# Altium footprint library MLACHA_B.PCBLIB: 37 footprints (part 1 of 3)
Each footprint in its own frame and in the unit in brackets; x right, y up, seen from the top. Pads: shape width x height; smd on the part's side, far side on the other; paste and mask are expansions set on the pad; w line width, h text height; cw(c..) or ccw(c..) is an arc to the next point about the centre after c.
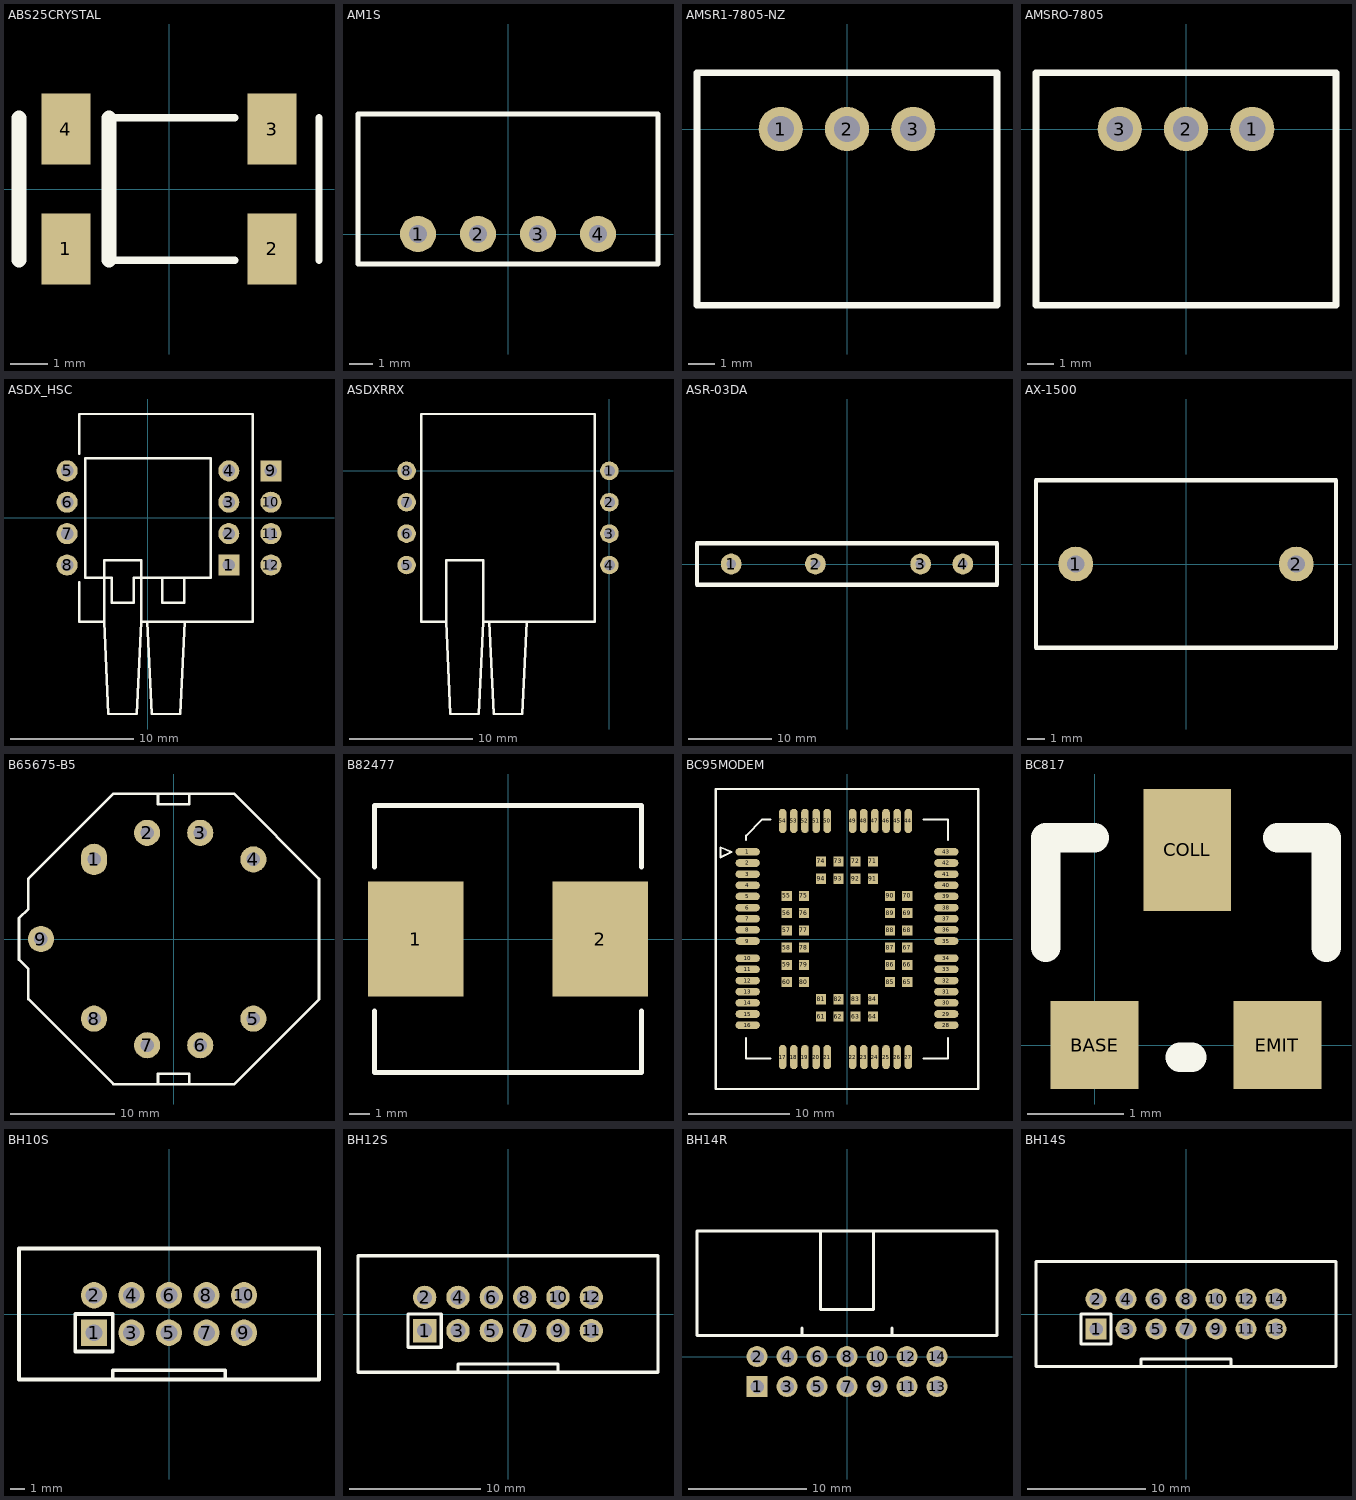
[diagram p0: the footprints below, top view; thin cyan lines are the x and y axes]

## ABS25CRYSTAL [mm]
pads (4):
  rect 1.3x1.9 smd paste+0 mask+0.04: 1(-2.75,-1.6) 2(2.75,-1.6) 3(2.75,1.6) 4(-2.75,1.6)
TopOverlay:
  lines w0.2: -1.6,-1.9 1.75,-1.9 ; -1.6,1.9 1.75,1.9 ; 4,-1.9 4,1.9
  lines w0.4: -4,-1.9 -4,1.9 ; -1.6,-1.9 -1.6,1.9
3D body: height 2.5, standoff 0, extent -4,-1.9 4,1.9
3D body: height 1, standoff 0, extent -3.25,-2 -2.25,-1.9
3D body: height 1, standoff 0, extent 2.25,-2 3.25,-1.9
3D body: height 1, standoff 0, extent -3.25,1.9 -2.25,2
3D body: height 1, standoff 0, extent 2.25,1.9 3.25,2

## AM1S [mil]
pads (4):
  round 60 hole 30: 1(-150,0) 2(-50,0) 3(50,0) 4(150,0)
TopOverlay:
  lines w8: -250,-50 -250,200 250,200 250,-50 -250,-50
3D body: height 413.39, standoff 0, extent -250,-50 250,200

## AMSR1-7805-NZ [mm]
pads (3):
  round 1.7 hole 1: 1(-2.54,0) 2(0,0) 3(2.54,0)
TopOverlay:
  lines w0.25: -5.75,-6.75 -5.75,2.15 5.75,2.15 5.75,-6.75 -5.75,-6.75
3D body: height 0.8, standoff 0, extent -5.75,-6.75 -5.3,2.15
3D body: height 0.8, standoff 0, extent 5.3,-6.75 5.75,2.15
3D body: height 17.5, standoff 0.5, extent -5.75,-6.75 5.75,2.15

## AMSRO-7805 [mm]
pads (3):
  round 1.7 hole 1: 1(2.54,0) 2(0,0) 3(-2.54,0)
TopOverlay:
  lines w0.25: -5.75,-6.75 -5.75,2.15 5.75,2.15 5.75,-6.75 -5.75,-6.75
3D body: height 0.8, standoff 0, extent -5.75,-6.75 -5.3,2.15
3D body: height 0.8, standoff 0, extent 5.3,-6.75 5.75,2.15
3D body: height 17.5, standoff 0.5, extent -5.75,-6.75 5.75,2.15

## ASDX_HSC [mm]
pads (12):
  rect 1.7x1.7 hole 1: 1(6.54,-3.81) 9(9.944,3.81)
  round 1.7 hole 1: 2(6.54,-1.27) 3(6.54,1.27) 4(6.54,3.81) 5(-6.54,3.81) 6(-6.54,1.27) 7(-6.54,-1.27) 8(-6.54,-3.81) 10(9.944,1.27) 11(9.944,-1.27) 12(9.944,-3.81)
TopOverlay:
  lines w0.2: -5.551,-5.2 -5.551,-8.407 -3.541,-8.407 ; -5.551,5.2 -5.551,8.407 8.47,8.407 8.47,-8.407 -0.541,-8.407 ; -0.041,-8.41 0.309,-15.86 2.609,-15.86 2.959,-8.41 ; 1.143,-4.826 1.143,-6.858 2.921,-6.858 2.921,-4.826 ; -5.08,-4.826 -5.08,4.826 5.08,4.826 5.08,-4.826 -1.143,-4.826 -1.143,-6.858 -2.921,-6.858 -2.921,-4.826 -5.08,-4.826 ; -3.541,-8.41 -3.201,-15.86 -0.901,-15.86 -0.541,-8.41 -0.541,-3.41 -3.541,-3.41 -3.541,-8.41
3D body: height 3.2, standoff 3, extent -6.94,-4.41 -5.141,-3.21
3D body: height 3.2, standoff 3, extent -6.94,-1.87 -5.141,-0.67
3D body: height 3.2, standoff 3, extent -6.94,0.67 -5.141,1.87
3D body: height 3.2, standoff 3, extent -6.94,3.21 -5.141,4.41
3D body: height 6.16, standoff 0, extent -5.08,-4.826 5.08,4.826
3D body: height 3.2, standoff 0, extent 6.31,3.21 6.71,4.41
3D body: height 3.2, standoff 3, extent 4.91,3.21 6.71,4.41
3D body: height 3.2, standoff 3, extent 4.91,0.67 6.71,1.87
3D body: height 3.2, standoff 0, extent 6.31,0.67 6.71,1.87
3D body: height 3.2, standoff 3, extent 4.91,-1.87 6.71,-0.67
3D body: height 3.2, standoff 0, extent 6.31,-1.87 6.71,-0.67
3D body: height 3.2, standoff 3, extent 4.91,-4.41 6.71,-3.21
3D body: height 3.2, standoff 0, extent 6.31,-4.41 6.71,-3.21
3D body: height 5.93, standoff 4.01, extent -2.961,-7.3 -1.039,-4.8
3D body: height 2.15, standoff 0.23, extent 1.039,-7.3 2.961,-4.8
3D body: height 4.7, standoff 4.5, extent -6.94,3.21 -5.141,4.41
3D body: height 9.14, standoff 0.2, extent -5.551,-8.407 8.47,8.331
3D body: height 11.18, standoff 8.18, extent -3.535,-8.4 -0.546,-3.4
3D body: height 10.83, standoff 8.53, extent -3.201,-15.86 -0.91,-8.36
3D body: height 2.95, standoff 0.65, extent 0.309,-15.86 2.6,-8.36
3D body: height 4.7, standoff 4.5, extent 8.314,3.21 10.114,4.41
3D body: height 4.7, standoff 0, extent 9.714,3.21 10.114,4.41
3D body: height 0, standoff -1.7, extent 9.714,3.51 10.114,4.11
3D body: height 0, standoff -1.7, extent 9.714,0.97 10.114,1.57
3D body: height 4.7, standoff 0, extent 9.714,0.67 10.114,1.87
3D body: height 4.7, standoff 4.5, extent 8.314,0.67 10.114,1.87
3D body: height 0, standoff -1.7, extent 9.714,-1.57 10.114,-0.97
3D body: height 4.7, standoff 0, extent 9.714,-1.87 10.114,-0.67
3D body: height 4.7, standoff 4.5, extent 8.314,-1.87 10.114,-0.67
3D body: height 0, standoff -1.7, extent 9.714,-4.11 10.114,-3.51
3D body: height 4.7, standoff 0, extent 9.714,-4.41 10.114,-3.21
3D body: height 4.7, standoff 4.5, extent 8.314,-4.41 10.114,-3.21
3D body: height 0, standoff -1.7, extent -6.94,-4.11 -6.54,-3.51
3D body: height 4.7, standoff 0, extent -6.94,-4.41 -6.54,-3.21
3D body: height 4.7, standoff 4.5, extent -6.94,-4.41 -5.141,-3.21
3D body: height 0, standoff -1.7, extent -6.94,-1.57 -6.54,-0.97
3D body: height 4.7, standoff 0, extent -6.94,-1.87 -6.54,-0.67
3D body: height 4.7, standoff 4.5, extent -6.94,-1.87 -5.141,-0.67
3D body: height 0, standoff -1.7, extent -6.94,0.97 -6.54,1.57
3D body: height 4.7, standoff 0, extent -6.94,0.67 -6.54,1.87
3D body: height 4.7, standoff 4.5, extent -6.94,0.67 -5.141,1.87
3D body: height 0, standoff -1.7, extent -6.94,3.51 -6.54,4.11
3D body: height 4.7, standoff 0, extent -6.94,3.21 -6.54,4.41

## ASDXRRX [mm]
pads (8):
  round 1.5 hole 0.9: 1(0,0) 2(0,-2.54) 3(0,-5.08) 4(0,-7.62) 5(-16.4,-7.62) 6(-16.4,-5.08) 7(-16.4,-2.54) 8(-16.4,0)
TopOverlay:
  lines w0.2: -13.2,-12.217 -15.21,-12.217 -15.21,4.597 -1.19,4.597 -1.19,-12.217 -10.2,-12.217 ; -9.7,-12.22 -9.35,-19.67 -7.05,-19.67 -6.7,-12.22 ; -13.2,-12.22 -13.2,-7.22 -10.2,-7.22 -10.2,-12.22 -10.56,-19.67 -12.86,-19.67 -13.2,-12.22
3D body: height 4.7, standoff 4.5, extent -16.6,-0.6 -14.8,0.6
3D body: height 4.7, standoff 0, extent -16.6,-0.6 -16.2,0.6
3D body: height 0, standoff -1.7, extent -16.6,-0.3 -16.2,0.3
3D body: height 4.7, standoff 4.5, extent -16.6,-3.14 -14.8,-1.94
3D body: height 4.7, standoff 0, extent -16.6,-3.14 -16.2,-1.94
3D body: height 0, standoff -1.7, extent -16.6,-2.84 -16.2,-2.24
3D body: height 4.7, standoff 4.5, extent -16.6,-5.68 -14.8,-4.48
3D body: height 4.7, standoff 0, extent -16.6,-5.68 -16.2,-4.48
3D body: height 0, standoff -1.7, extent -16.6,-5.38 -16.2,-4.78
3D body: height 4.7, standoff 4.5, extent -16.6,-8.22 -14.8,-7.02
3D body: height 4.7, standoff 0, extent -16.6,-8.22 -16.2,-7.02
3D body: height 0, standoff -1.7, extent -16.6,-7.92 -16.2,-7.32
3D body: height 4.7, standoff 4.5, extent -1.6,-8.22 0.2,-7.02
3D body: height 4.7, standoff 0, extent -0.2,-8.22 0.2,-7.02
3D body: height 0, standoff -1.7, extent -0.2,-7.92 0.2,-7.32
3D body: height 4.7, standoff 4.5, extent -1.6,-5.68 0.2,-4.48
3D body: height 4.7, standoff 0, extent -0.2,-5.68 0.2,-4.48
3D body: height 0, standoff -1.7, extent -0.2,-5.38 0.2,-4.78
3D body: height 4.7, standoff 4.5, extent -1.6,-3.14 0.2,-1.94
3D body: height 4.7, standoff 0, extent -0.2,-3.14 0.2,-1.94
3D body: height 0, standoff -1.7, extent -0.2,-2.84 0.2,-2.24
3D body: height 0, standoff -1.7, extent -0.2,-0.3 0.2,0.3
3D body: height 4.7, standoff 0, extent -0.2,-0.6 0.2,0.6
3D body: height 4.7, standoff 4.5, extent -1.6,-0.6 0.2,0.6
3D body: height 2.95, standoff 0.65, extent -9.35,-19.67 -7.059,-12.17
3D body: height 10.83, standoff 8.53, extent -12.86,-19.67 -10.569,-12.17
3D body: height 11.18, standoff 8.18, extent -13.194,-12.21 -10.206,-7.21
3D body: height 9.14, standoff 0.2, extent -15.21,-12.217 -1.19,4.521

## ASR-03DA [mm]
pads (4):
  round 2.5 hole 1.2: 1(-13.97,0) 2(-3.81,0) 3(8.89,0) 4(13.97,0)
TopOverlay:
  lines w0.5: -18.1,-2.5 -18.1,2.5 18.1,2.5 18.1,-2.5 -18.1,-2.5
3D body: height 22.5, standoff 0.8, extent -18.05,-2.5 18.15,2.5
3D body: height 3, standoff -2, extent -14.3,-0.45 -13.6,0.45
3D body: height 3, standoff -2, extent -4.14,-0.45 -3.44,0.45
3D body: height 3, standoff -2, extent 8.56,-0.45 9.26,0.45
3D body: height 3, standoff -2, extent 13.64,-0.45 14.34,0.45

## AX-1500 [mm]
pads (2):
  round 2 hole 1: 1(-6.35,0) 2(6.35,0)
TopOverlay:
  lines w0.25: -8.636,-4.826 8.636,-4.826 8.636,4.826 -8.636,4.826 -8.636,-4.826
3D body: height 20.4, standoff 0, extent -8.636,-4.826 8.636,4.826

## B65675-B5 [mm]
pads (9):
  oval 2.5x3 hole 1.3: 1(-7.62,7.62)
  round 2.5 hole 1.3: 2(-2.54,10.16) 3(2.54,10.16) 4(7.62,7.62) 5(7.62,-7.62) 6(2.54,-10.16) 7(-2.54,-10.16) 8(-7.62,-7.62) 9(-12.7,0)
TopOverlay:
  lines w0.25: -13.9,-5.761 -13.9,-2.876 -14.8,-1.976 -14.8,1.994 -13.9,2.894 -13.9,5.779 ; -13.898,-5.759 -5.779,-13.879 ; -13.879,5.779 -5.758,13.9 5.744,13.9 ; -5.758,-13.9 5.753,-13.9 ; -1.5,-13.9 -1.5,-12.9 1.5,-12.9 1.5,-13.9 ; -1.5,13.9 -1.5,12.9 1.5,12.9 1.5,13.9 ; 5.751,13.907 13.893,5.765 ; 5.755,-13.902 13.879,-5.779 ; 13.9,-5.779 13.9,5.772
3D body: height 18.2, standoff 18, extent -13.4,-2.7 13.4,2.7
3D body: height 18.2, standoff 0, extent 13,-2.7 13.4,2.7
3D body: height 18.2, standoff 0, extent -13.4,-2.7 -12.9,2.7
3D body: height 18, standoff 0, extent -12.897,-13.074 13,12.874
3D body: height 3, standoff 0, extent -13.9,-13.902 13.893,13.907

## B82477 [mm]
pads (2):
  rect 4.65x5.6 smd: 1(-4.5,0) 2(4.5,0)
TopOverlay:
  lines w0.254: -6.5,-3.5 -6.5,-6.5 6.5,-6.5 6.5,-3.5 ; -6.5,3.5 -6.5,6.5 6.5,6.5 6.5,3.5
3D body: height 4.8, standoff 0, extent -6,-6 6,6
3D body: height 2.5, standoff 0, extent -6.5,-2 -6,2
3D body: height 2.5, standoff 0, extent 6,-2 6.5,2

## BC95MODEM [mm]
pads (94):
  oval 2.4x0.75 smd paste-0.025: 1(-9.8,8.6) 2(-9.8,7.5) 3(-9.8,6.4) 4(-9.8,5.3) 5(-9.8,4.2) 6(-9.8,3.1) 7(-9.8,2) 8(-9.8,0.9) 9(-9.8,-0.2) 10(-9.8,-1.9) 11(-9.8,-3) 12(-9.8,-4.1) 13(-9.8,-5.2) 14(-9.8,-6.3) 15(-9.8,-7.4) 16(-9.8,-8.5) 28(9.8,-8.5) 29(9.8,-7.4) 30(9.8,-6.3) 31(9.8,-5.2) 32(9.8,-4.1) 33(9.8,-3) 34(9.8,-1.9) 35(9.8,-0.2) 36(9.8,0.9) 37(9.8,2) 38(9.8,3.1) 39(9.8,4.2) 40(9.8,5.3) 41(9.8,6.4) 42(9.8,7.5) 43(9.8,8.6)
  oval 0.75x2.4 smd paste-0.025: 17(-6.35,-11.65) 18(-5.25,-11.65) 19(-4.15,-11.65) 20(-3.05,-11.65) 21(-1.95,-11.65) 22(0.55,-11.65) 23(1.65,-11.65) 24(2.75,-11.65) 25(3.85,-11.65) 26(4.95,-11.65) 27(6.05,-11.65) 44(6.05,11.65) 45(4.95,11.65) 46(3.85,11.65) 47(2.75,11.65) 48(1.65,11.65) 49(0.55,11.65) 50(-1.95,11.65) 51(-3.05,11.65) 52(-4.15,11.65) 53(-5.25,11.65) 54(-6.35,11.65)
  rect 1x1 smd paste-0.125: 55(-5.95,4.25) 56(-5.95,2.55) 57(-5.95,0.85) 58(-5.95,-0.85) 59(-5.95,-2.55) 60(-5.95,-4.25) 61(-2.55,-7.65) 62(-0.85,-7.65) 63(0.85,-7.65) 64(2.55,-7.65) 65(5.95,-4.25) 66(5.95,-2.55) 67(5.95,-0.85) 68(5.95,0.85) 69(5.95,2.55) 70(5.95,4.25) 71(2.55,7.65) 72(0.85,7.65) 73(-0.85,7.65) 74(-2.55,7.65) 75(-4.25,4.25) 76(-4.25,2.55) 77(-4.25,0.85) 78(-4.25,-0.85) 79(-4.25,-2.55) 80(-4.25,-4.25) 81(-2.55,-5.95) 82(-0.85,-5.95) 83(0.85,-5.95) 84(2.55,-5.95) 85(4.25,-4.25) 86(4.25,-2.55) 87(4.25,-0.85) 88(4.25,0.85) 89(4.25,2.55) 90(4.25,4.25) 91(2.55,5.95) 92(0.85,5.95) 93(-0.85,5.95) 94(-2.55,5.95)
TopOverlay:
  lines w0.2: -9.95,-9.75 -9.95,-11.8 -7.55,-11.8 ; -9.95,9.75 -9.95,10.2 -8.35,11.8 -7.55,11.8 ; 7.55,-11.8 9.95,-11.8 9.95,-9.75 ; 7.55,11.8 9.95,11.8 9.95,9.75 ; -12.95,-14.8 -12.95,14.8 12.95,14.8 12.95,-14.8 -12.95,-14.8 ; -12.5,8.05 -11.4,8.6 -12.5,9.05 -12.5,8.05
3D body: height 2.2, standoff 0, extent -9.575,-11.45 9.6,11.275
3D body: height 0.6, standoff 0, extent -9.95,-11.8 9.95,11.8

## BC817 [mil]
pads (3):
  rect 36x36 smd: BASE(0,0) EMIT(75,0)
  rect 36x50 smd: COLL(38,80)
TopOverlay:
  lines w12: -20,40 -20,85 0,85 ; 35,-5 40,-5 ; 75,85 95,85 95,40

## BH10S [mil]
height 362.2
pads (10):
  rect 70x70 hole 45: 1(-200,-50)
  round 70 hole 45: 2(-200,50) 3(-100,-50) 4(-100,50) 5(0,-50) 6(0,50) 7(100,-50) 8(100,50) 9(200,-50) 10(200,50)
TopOverlay:
  lines w10: -150,-175 -150,-150 150,-150 150,-175 ; -400,-175 -400,175 400,175 400,-175 -400,-175 ; -250,-100 -150,-100 -150,0 -250,0 -250,-100
3D body: height 39.37, standoff 0, extent -399.61,-177.17 397.64,177.17
3D body: height 358.27, standoff 0, extent -399.61,-177.17 397.64,177.17
3D body: height 98.43, standoff 0, extent -90.55,-173.23 90.55,-129.92
3D body: height 326.77, standoff -118.11, extent -211.81,-61.81 -188.19,-38.19
3D body: height 326.77, standoff -118.11, extent -111.81,-61.81 -88.19,-38.19
3D body: height 326.77, standoff -118.11, extent -11.81,-61.81 11.81,-38.19
3D body: height 326.77, standoff -118.11, extent -211.81,38.19 -188.19,61.81
3D body: height 326.77, standoff -118.11, extent -111.81,38.19 -88.19,61.81
3D body: height 326.77, standoff -118.11, extent -11.81,38.19 11.81,61.81
3D body: height 326.77, standoff -118.11, extent 88.19,38.19 111.81,61.81
3D body: height 326.77, standoff -118.11, extent 88.19,-61.81 111.81,-38.19
3D body: height 326.77, standoff -118.11, extent 188.19,-61.81 211.81,-38.19
3D body: height 326.77, standoff -118.11, extent 188.19,38.19 211.81,61.81

## BH12S [mil]
height 362.2
pads (12):
  rect 70x70 hole 45: 1(-250,-50)
  round 70 hole 45: 2(-250,50) 3(-150,-50) 4(-150,50) 5(-50,-50) 6(-50,50) 7(50,-50) 8(50,50) 9(150,-50) 10(150,50) 11(250,-50) 12(250,50)
TopOverlay:
  lines w10: -150,-175 -150,-150 150,-150 150,-175 ; -450,-175 -450,175 450,175 450,-175 -450,-175 ; -300,-100 -200,-100 -200,0 -300,0 -300,-100
3D body: height 326.77, standoff -118.11, extent 238.19,38.19 261.81,61.81
3D body: height 326.77, standoff -118.11, extent 238.19,-61.81 261.81,-38.19
3D body: height 326.77, standoff -118.11, extent 138.19,38.19 161.81,61.81
3D body: height 326.77, standoff -118.11, extent 138.19,-61.81 161.81,-38.19
3D body: height 326.77, standoff -118.11, extent 38.19,-61.81 61.81,-38.19
3D body: height 326.77, standoff -118.11, extent 38.19,38.19 61.81,61.81
3D body: height 326.77, standoff -118.11, extent -61.81,38.19 -38.19,61.81
3D body: height 326.77, standoff -118.11, extent -161.81,38.19 -138.19,61.81
3D body: height 326.77, standoff -118.11, extent -261.81,38.19 -238.19,61.81
3D body: height 326.77, standoff -118.11, extent -61.81,-61.81 -38.19,-38.19
3D body: height 326.77, standoff -118.11, extent -161.81,-61.81 -138.19,-38.19
3D body: height 326.77, standoff -118.11, extent -261.81,-61.81 -238.19,-38.19
3D body: height 98.43, standoff 0, extent -140,-173.23 140.55,-129.92
3D body: height 358.27, standoff 0, extent -449.61,-177.17 450,177.17
3D body: height 39.37, standoff 0, extent -449.61,-177.17 450,177.17

## BH14R [mil]
height 362.2
pads (14):
  rect 70x70 hole 45: 1(-300,-100)
  round 70 hole 45: 2(-300,0) 3(-200,-100) 4(-200,0) 5(-100,-100) 6(-100,0) 7(0,-100) 8(0,0) 9(100,-100) 10(100,0) 11(200,-100) 12(200,0) 13(300,-100) 14(300,0)
TopOverlay:
  lines w10: -150,70.91 -150,95.91 ; -88.58,418.9 -88.58,157.48 88.58,157.48 88.58,418.9 ; 150,70.91 150,95.91 ; -500,70.91 -500,418.9 500,418.9 500,70.91 -500,70.91
3D body: height 249.61, standoff -78.74, extent 288.19,-111.81 311.81,-88.19
3D body: height 249.61, standoff 224.41, extent 288.19,-111.81 311.81,383.86
3D body: height 249.61, standoff -78.74, extent 188.19,-111.81 211.81,-88.19
3D body: height 249.61, standoff 224.41, extent 188.19,-111.81 211.81,383.86
3D body: height 249.61, standoff -78.74, extent 88.19,-111.81 111.81,-88.19
3D body: height 249.61, standoff 224.41, extent 88.19,-111.81 111.81,383.86
3D body: height 249.61, standoff -78.74, extent -11.81,-111.81 11.81,-88.19
3D body: height 249.61, standoff 224.41, extent -11.81,-111.81 11.81,383.86
3D body: height 249.61, standoff -78.74, extent -111.81,-111.81 -88.19,-88.19
3D body: height 249.61, standoff 224.41, extent -111.81,-111.81 -88.19,383.86
3D body: height 249.61, standoff -78.74, extent -211.81,-111.81 -188.19,-88.19
3D body: height 249.61, standoff 224.41, extent -211.81,-111.81 -188.19,383.86
3D body: height 249.61, standoff 224.41, extent -311.81,-111.81 -288.19,383.86
3D body: height 249.61, standoff -78.74, extent -311.81,-111.81 -288.19,-88.19
3D body: height 362.2, standoff 11.81, extent -500,70.91 500,129.96
3D body: height 362.2, standoff 11.81, extent 454.72,70.91 500,418.9
3D body: height 362.2, standoff 11.81, extent -500,70.91 -454.72,418.9
3D body: height 362.2, standoff 316.93, extent -500,70.91 500,418.9
3D body: height 57.09, standoff 11.81, extent -500,70.91 500,418.9
3D body: height 149.61, standoff 124.41, extent -11.81,-11.81 11.81,383.86
3D body: height 149.61, standoff -78.74, extent -11.81,-11.81 11.81,11.81
3D body: height 149.61, standoff -78.74, extent 88.19,-11.81 111.81,11.81
3D body: height 149.61, standoff 124.41, extent 88.19,-11.81 111.81,383.86
3D body: height 149.61, standoff -78.74, extent 188.19,-11.81 211.81,11.81
3D body: height 149.61, standoff 124.41, extent 188.19,-11.81 211.81,383.86
3D body: height 149.61, standoff -78.74, extent 288.19,-11.81 311.81,11.81
3D body: height 149.61, standoff 124.41, extent 288.19,-11.81 311.81,383.86
3D body: height 149.61, standoff -78.74, extent -111.81,-11.81 -88.19,11.81
3D body: height 149.61, standoff 124.41, extent -111.81,-11.81 -88.19,383.86
3D body: height 149.61, standoff -78.74, extent -211.81,-11.81 -188.19,11.81
3D body: height 149.61, standoff 124.41, extent -211.81,-11.81 -188.19,383.86
3D body: height 149.61, standoff -78.74, extent -311.81,-11.81 -288.19,11.81
3D body: height 149.61, standoff 124.41, extent -311.81,-11.81 -288.19,383.86

## BH14S [mil]
height 362.2
pads (14):
  rect 70x70 hole 45: 1(-300,-50)
  round 70 hole 45: 2(-300,50) 3(-200,-50) 4(-200,50) 5(-100,-50) 6(-100,50) 7(0,-50) 8(0,50) 9(100,-50) 10(100,50) 11(200,-50) 12(200,50) 13(300,-50) 14(300,50)
TopOverlay:
  lines w10: -150,-175 -150,-150 150,-150 150,-175 ; -500,-175 500,-175 500,175 -500,175 -500,-175 ; -350,-100 -350,0 -250,0 -250,-100 -350,-100
3D body: height 39.37, standoff 0, extent -499.61,-177.17 500,177.17
3D body: height 358.27, standoff 0, extent -499.61,-177.17 500,177.17
3D body: height 98.43, standoff 0, extent -90.55,-173.23 90.55,-129.92
3D body: height 326.77, standoff -118.11, extent -311.81,-61.81 -288.19,-38.19
3D body: height 326.77, standoff -118.11, extent -211.81,-61.81 -188.19,-38.19
3D body: height 326.77, standoff -118.11, extent -111.81,-61.81 -88.19,-38.19
3D body: height 326.77, standoff -118.11, extent -311.81,38.19 -288.19,61.81
3D body: height 326.77, standoff -118.11, extent -211.81,38.19 -188.19,61.81
3D body: height 326.77, standoff -118.11, extent -111.81,38.19 -88.19,61.81
3D body: height 326.77, standoff -118.11, extent -11.81,38.19 11.81,61.81
3D body: height 326.77, standoff -118.11, extent -11.81,-61.81 11.81,-38.19
3D body: height 326.77, standoff -118.11, extent 88.19,-61.81 111.81,-38.19
3D body: height 326.77, standoff -118.11, extent 88.19,38.19 111.81,61.81
3D body: height 326.77, standoff -118.11, extent 188.19,-61.81 211.81,-38.19
3D body: height 326.77, standoff -118.11, extent 188.19,38.19 211.81,61.81
3D body: height 326.77, standoff -118.11, extent 288.19,-61.81 311.81,-38.19
3D body: height 326.77, standoff -118.11, extent 288.19,38.19 311.81,61.81